# Altium footprint library DiscreteSemiconductors.PcbLib: 21 footprints (part 1 of 2)
Each footprint in its own frame and in the unit in brackets; x right, y up, seen from the top. Pads: shape width x height; smd on the part's side, far side on the other; paste and mask are expansions set on the pad; w line width, h text height; cw(c..) or ccw(c..) is an arc to the next point about the centre after c.
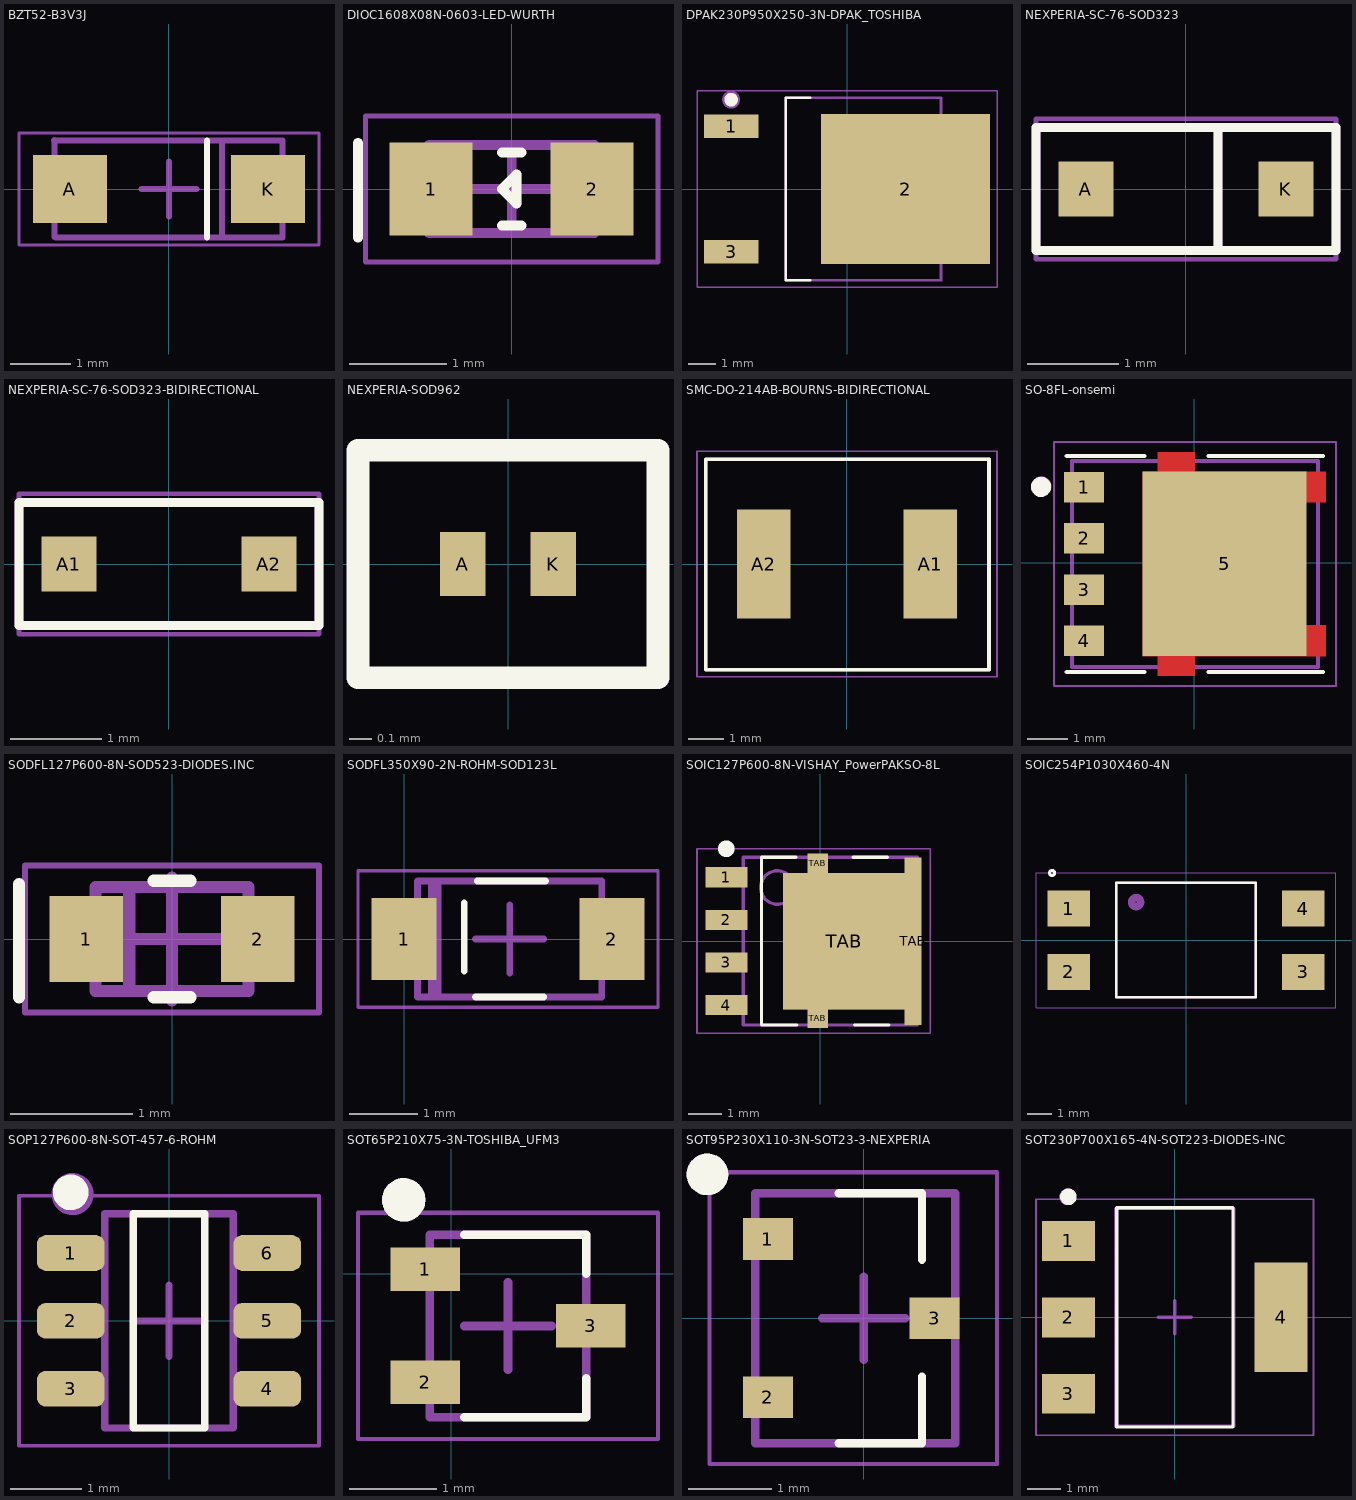
[diagram p0: the footprints below, top view; thin cyan lines are the x and y axes]

## BZT52-B3V3J [mm]
pads (2):
  rect 1.22x1.12 smd: A(-1.635,0) K(1.635,0)
Top Overlay:
  lines w0.1: 0.625,-0.8 0.625,0.8
Top Courtyard:
  lines w0.05: -2.475,-0.925 2.475,-0.925 2.475,0.925 -2.475,0.925 -2.475,-0.925
  lines w0.1: -0.45,0 0.45,0 ; 0,-0.45 0,0.45
Top Assembly (Mech12):
  lines w0.1: -1.9,0.8 1.85,0.8 ; -1.887,-0.795 -1.887,0.805 ; -1.875,-0.8 1.875,-0.8 1.875,0.8 ; 0.875,-0.8 0.875,0.8
3D body "CircuitWorks-SOD123.STEP": height 1.27, standoff 0, extent -1.85,-0.8 1.85,0.8

## DIOC1608X08N-0603-LED-WURTH [mm] "Chip Diode, 2-Leads, Body 1.60x0.80mm, IPC Medium Density. Based in 150060VS75000"
height 0.8
pads (2):
  rect 0.85x0.95 smd: 1(-0.825,0) 2(0.825,0)
Top Overlay:
  lines w0.1: -1.575,-0.5 -1.575,0.475 ; -0.1,-0.375 0.1,-0.375 ; -0.1,0.375 0.1,0.375 ; -0.1,0 0.05,-0.15 0.05,0.15 -0.1,0
Top Courtyard:
  lines w0.05: -1.5,-0.75 1.5,-0.75 1.5,0.75 -1.5,0.75 -1.5,-0.75
  lines w0.1: -0.45,0 0.45,0 ; 0,-0.45 0,0.45
Top Assembly (Mech12):
  lines w0.1: -0.65,-0.425 -0.65,0.45 ; -0.85,-0.45 0.85,-0.45 0.85,0.45 -0.85,0.45 -0.85,-0.45 ; -0.1,0 0.05,0.15 0.05,-0.15 -0.1,0
3D body "DIOC1608X08N-0603-LED-WURTH.step": height 0.8, standoff 0, extent -0.85,-0.45 0.85,0.45

## DPAK230P950X250-3N-DPAK_TOSHIBA [mm] "D-PAK, 3-Pads, Body 5.95x6.71mm (max), IPC Medium Density"
height 2.5
pads (3):
  rect 2x0.85 smd: 1(-4.25,2.3) 3(-4.25,-2.3)
  rect 6.2x5.5 smd: 2(2.15,0)
Top Overlay:
  circle w0.25: c-4.25,3.275 r0.125
  lines w0.1: -1.35,-3.35 -2.25,-3.35 -2.25,3.35 -1.35,3.35
Top Courtyard:
  lines w0.05: -5.5,-3.6 -5.5,3.6 5.5,3.6 5.5,-3.6 -5.5,-3.6
  lines w0.1: -0.5,0 0.5,0 ; 0,-0.5 0,0.5
Top Assembly (Mech12):
  circle w0.254: c-4.25,3.275 r0.202
  lines w0.1: -2.25,-3.35 -2.25,3.35 3.45,3.35 3.45,-3.35 -2.25,-3.35
3D body "DPAK230P950X250-3N-DPAK_TOSHIBA.step": height 2.5, standoff 0, extent -4.55,-3.35 4.95,3.35

## NEXPERIA-SC-76-SOD323 [mm]
pads (2):
  rect 0.6x0.6 smd: A(-1.1,0) K(1.1,0)
Top Overlay:
  lines w0.1: 0.35,-0.65 0.35,0.65 ; -1.65,-0.675 1.65,-0.675 1.65,0.675 -1.65,0.675 -1.65,-0.675
Top Courtyard:
  lines w0.05: -1.65,-0.775 1.65,-0.775 1.65,0.775 -1.65,0.775 -1.65,-0.775
Top Assembly (Mech12):
  lines w0.1: 0.35,-0.65 0.35,0.625 ; -1.65,-0.675 1.65,-0.675 1.65,0.675 -1.65,0.675 -1.65,-0.675
3D body "User Library-SOD323-1.STEP": height 1.1, standoff 0, extent -1.3,-0.675 1.3,0.675

## NEXPERIA-SC-76-SOD323-BIDIRECTIONAL [mm]
pads (2):
  rect 0.6x0.6 smd: A1(-1.1,0) A2(1.1,0)
Top Overlay:
  lines w0.1: -1.65,-0.675 1.65,-0.675 1.65,0.675 -1.65,0.675 -1.65,-0.675
Top Courtyard:
  lines w0.05: -1.65,-0.775 1.65,-0.775 1.65,0.775 -1.65,0.775 -1.65,-0.775
Top Assembly (Mech12):
  lines w0.1: -1.65,-0.675 1.65,-0.675 1.65,0.675 -1.65,0.675 -1.65,-0.675
3D body "User Library-SOD323-1.STEP": height 1.1, standoff 0, extent -1.3,-0.675 1.3,0.675

## NEXPERIA-SOD962 [mm]
pads (2):
  rect 0.2x0.28 smd: A(-0.2,0) K(0.2,0)
Top Overlay:
  lines w0.1: -0.66,-0.5 -0.66,0 -0.66,0.5 0.66,0.5 0.66,-0.5 -0.66,-0.5

## SMC-DO-214AB-BOURNS-BIDIRECTIONAL [mm]
pads (2):
  rect 1.52x3.07 smd: A1(2.345,0) A2(-2.345,0)
Top Overlay:
  lines w0.1: -3.975,-2.975 4,-2.975 4,2.95 -3.975,2.95 -3.975,-2.975
Top Courtyard:
  lines w0.05: -4.225,-3.175 -4.225,3.175 4.225,3.175 4.225,-3.175 -4.225,-3.175
Top Assembly (Mech12):
  lines w0.1: -3.975,-2.975 -3.975,2.95 4,2.95 4,-2.975 -3.975,-2.975
3D body "User Library-DO-214AB SMC.STEP": height 3, standoff 0.7, extent -3.975,-2.95 3.975,2.95

## SO-8FL-onsemi [mm]
pads (5):
  rect 1x0.75 smd paste+0: 1(-2.729,1.88) 2(-2.729,0.61) 3(-2.729,-0.66) 4(-2.729,-1.93)
  rect 4.064x4.572 smd: 5(0.754,-0.025)
Top Layer:
  region: 0.018,2.744 -0.896,2.744 -0.896,2.261 -1.278,2.261 -1.278,-2.311 -0.896,-2.311 -0.896,-2.794 0.018,-2.794 0.018,-2.311 3.261,-2.311 3.261,-1.549 2.271,-1.549 2.271,1.499 3.261,1.499 3.261,2.261 0.018,2.261
Top Overlay:
  circle w0.25: c-3.794,1.886 r0.125
  lines w0.1: -3.157,-2.705 -1.229,-2.705 ; -3.157,2.655 -1.229,2.655 ; 0.351,-2.705 3.193,-2.705 ; 0.351,2.655 3.193,2.655
Top Paste:
  region: 0.018,2.744 -0.896,2.744 -0.896,2.261 -1.278,2.261 -1.278,-2.311 -0.896,-2.311 -0.896,-2.794 0.018,-2.794 0.018,-2.311 3.261,-2.311 3.261,-1.549 2.271,-1.549 2.271,1.499 3.261,1.499 3.261,2.261 0.018,2.261
Top Solder:
  region: 0.018,2.744 -0.896,2.744 -0.896,2.261 -1.278,2.261 -1.278,-2.311 -0.896,-2.311 -0.896,-2.794 0.018,-2.794 0.018,-2.311 3.261,-2.311 3.261,-1.549 2.271,-1.549 2.271,1.499 3.261,1.499 3.261,2.261 0.018,2.261
Top Courtyard:
  lines w0.05: -3.478,-3.048 3.515,-3.048 3.515,2.998 -3.478,2.998 -3.478,-3.048
  lines w0.1: -0.5,0 0.5,0 ; 0,-0.5 0,0.5
Top Assembly (Mech12):
  circle w0.25: c-3.787,1.9 r0.125
  lines w0.1: -3.03,-2.578 -3.03,2.528 3.066,2.528 3.066,-2.578 -3.03,-2.578
3D body "User Library-DFN5x6_SO8FL.STEP": height 1.13, standoff 0, extent -3.062,-2.6 3.088,2.55

## SODFL127P600-8N-SOD523-DIODES.INC [mm] "SBR1A20T5-7"
height 0.65
pads (2):
  rect 0.6x0.7 smd: 1(-0.7,0) 2(0.7,0)
Top Overlay:
  lines w0.1: -1.25,-0.475 -1.25,0.45 ; -0.15,-0.475 0.15,-0.475 ; -0.15,0.475 0.15,0.475
Top Courtyard:
  lines w0.05: -1.2,-0.6 -1.2,0.6 1.2,0.6 1.2,-0.6 -1.2,-0.6
  lines w0.1: -0.5,0 0.5,0 ; 0,-0.5 0,0.5
Top Assembly (Mech12):
  lines w0.1: -0.35,-0.4 -0.35,0.425 ; -0.625,-0.425 -0.625,0.425 0.625,0.425 0.625,-0.425 -0.625,-0.425
3D body "SODFL127P600-8N-SOD523-DIODES.INC.step": height 0.65, standoff 0, extent -0.8,-0.425 0.8,0.425

## SODFL350X90-2N-ROHM-SOD123L [mm] "SODFL, 2-Leads, Body 1.60x3.50mm, IPC Medium Density"
height 0.9
pads (2):
  rect 0.95x1.2 smd: 1(0,0) 2(3.05,0)
Top Overlay:
  lines w0.1: 0.885,-0.469 0.885,0.531 ; 1.05,-0.85 2.05,-0.85 ; 1.075,0.85 2.075,0.85
Top Courtyard:
  lines w0.05: -0.675,-1 3.725,-1 3.725,1 -0.675,1 -0.675,-1
  lines w0.1: 1.05,0 2.05,0 ; 1.55,-0.5 1.55,0.5
Top Assembly (Mech12):
  lines w0.1: 0.2,-0.85 0.2,0.85 2.9,0.85 2.9,-0.85 0.2,-0.85
  lines w0.2: 0.45,-0.775 0.45,0.775
3D body "SODFL350X90-2N-ROHM-SOD123L.step": height 0.9, standoff 0, extent -0.2,-0.85 3.3,0.85

## SOIC127P600-8N-VISHAY_PowerPAKSO-8L [mm] "based off SQJ416EP-T1_GE3"
height 1.14
pads (8):
  rect 1.25x0.6 smd: 1(-2.8,1.905) 2(-2.8,0.635) 3(-2.8,-0.635) 4(-2.8,-1.905)
  rect 0.61x0.59 smd: TAB(-0.07,-2.295) TAB(-0.07,2.32)
  rect 3.63x4.06 smd: TAB(0.71,0)
  rect 0.51x5 smd: TAB(2.77,0)
Top Layer:
  rectangle: -1.1,-2.03 2.53,2.03
Top Overlay:
  circle w0.25: c-2.8,2.755 r0.125
  lines w0.1: -1.75,-2.5 -1.75,2.5 -0.725,2.5 ; -1.728,-2.499 -0.703,-2.499 ; 0.975,2.5 2,2.5 ; 1.022,-2.499 2.047,-2.499
Top Courtyard:
  lines w0.05: -3.675,-2.75 -3.675,2.75 ; -3.675,-2.745 3.275,-2.745 3.275,2.755 -3.675,2.755
  lines w0.1: -0.5,0 0.5,0 ; 0,-0.5 0,0.5
Top Assembly (Mech12):
  circle w0.1: c-1.275,1.6 r0.5
  lines w0.1: -2.3,-2.5 -2.3,2.5 2.9,2.5 2.9,-2.5 -2.3,-2.5
3D body "User Library-PowerPAK SO-8 (S).STEP": height 1.04, standoff 0, extent -3.25,-2.6 2.9,2.55

## SOIC254P1030X460-4N [mm]
pads (4):
  rect 1.7x1.45 smd: 1(-4.7,1.27) 2(-4.7,-1.27) 3(4.7,-1.27) 4(4.7,1.27)
Top Overlay:
  circle w0.127: c-5.375,2.7 r0.1
  lines w0.1: -2.8,2.29 -2.8,-2.29 2.8,-2.29 2.8,2.29 ; -2.8,2.3 2.8,2.3
Top Courtyard:
  lines w0.05: -6.02,-2.7 -6.02,2.7 6.02,2.7 6.02,-2.7 -6.02,-2.7
Top Assembly (Mech12):
  circle w0.3: c-2.003,1.53 r0.18
  lines w0.1: -2.8,2.29 -2.8,-2.29 2.8,-2.29 2.8,2.29 ; -2.8,2.3 2.8,2.3
3D body "VO615A-8X017T.STEP": height 3.7, standoff 0.01, extent -5.08,-2.29 5.08,2.29

## SOP127P600-8N-SOT-457-6-ROHM [mm]
height 1
pads (6):
  rrect50% 0.95x0.5 smd: 1(-1.375,0.95) 2(-1.375,0) 3(-1.375,-0.95) 4(1.375,-0.95) 5(1.375,0) 6(1.375,0.95)
Top Overlay:
  circle w0.25: c-1.375,1.8 r0.125
  lines w0.1: -0.5,-1.5 0.5,-1.5 0.5,1.5 -0.5,1.5 -0.5,-1.5
Top Courtyard:
  lines w0.05: -2.1,-1.75 2.1,-1.75 2.1,1.75 -2.1,1.75 -2.1,-1.75
  lines w0.1: -0.5,0 0.5,0 ; 0,-0.5 0,0.5
Top Assembly (Mech12):
  circle w0.254: c-1.35,1.775 r0.168
  lines w0.1: -0.9,-1.5 0.9,-1.5 0.9,1.5 -0.9,1.5 -0.9,-1.5
3D body "SOP127P600-8N-SOT-457-6-ROHM.step": height 1, standoff 0, extent -1.393,-1.5 1.393,1.5

## SOT65P210X75-3N-TOSHIBA_UFM3 [mm] "SOT23, 3-Leads, Body 2,00x2,10mm, Pitch 0,65mm, IPC Medium Density"
height 0.75
pads (3):
  rect 0.8x0.5 smd: 1(-0.3,0.05) 2(-0.3,-1.25) 3(1.6,-0.6)
Top Overlay:
  circle w0.25: c-0.55,0.85 r0.125
  lines w0.1: 0.15,-1.65 1.55,-1.65 1.55,-1.2 ; 0.15,0.45 1.55,0.45 1.55,0
Top Courtyard:
  lines w0.05: -1.075,-1.9 2.375,-1.9 2.375,0.7 -1.075,0.7 -1.075,-1.9
  lines w0.1: 0.15,-0.6 1.15,-0.6 ; 0.65,-1.1 0.65,-0.1
Top Assembly (Mech12):
  circle w0.25: c-0.55,0.85 r0.125
  lines w0.1: -0.25,-1.65 1.55,-1.65 1.55,0.45 -0.25,0.45 -0.25,-1.65
3D body "SOT65P210X75-3N-TOSHIBA_UFM3.step": height 0.75, standoff 0, extent -0.35,-1.65 1.65,0.45

## SOT95P230X110-3N-SOT23-3-NEXPERIA [mm] "SOT23, 3-Leads, Body 2.90x2.30mm, Pitch 0.95mm, IPC Medium Density"
height 1.1
pads (3):
  rect 0.6x0.5 smd: 1(-1.15,0.95) 2(-1.15,-0.95) 3(0.85,0)
Top Overlay:
  circle w0.25: c-1.875,1.725 r0.125
  lines w0.1: -0.3,-1.5 0.7,-1.5 0.7,-0.7 ; -0.3,1.5 0.7,1.5 0.7,0.7
Top Courtyard:
  lines w0.05: -1.85,-1.75 1.6,-1.75 1.6,1.75 -1.85,1.75 -1.85,-1.75
  lines w0.1: -0.5,0 0.5,0 ; 0,-0.5 0,0.5
Top Assembly (Mech12):
  circle w0.25: c-1.875,1.725 r0.125
  lines w0.1: -1.3,-1.5 -1.3,1.5 1.1,1.5 1.1,-1.5 -1.3,-1.5
3D body "SOT95P230X110-3N-SOT23-3-NEXPERIA.step": height 1.1, standoff 0, extent -1.45,-1.5 1.15,1.5

## SOT230P700X165-4N-SOT223-DIODES-INC [mm] "SOT223, 4-Leads, Body 6.50x7.00mm (avg), Pitch 2.30mm, IPC Medium Density"
height 1.65
pads (4):
  rect 1.6x1.2 smd: 1(-3.2,2.3) 2(-3.2,0) 3(-3.2,-2.3)
  rect 1.6x3.3 smd: 4(3.2,0)
Top Overlay:
  circle w0.25: c-3.2,3.625 r0.125
  lines w0.1: -1.75,-3.3 -1.75,3.3 1.75,3.3 1.75,-3.3 -1.75,-3.3
Top Courtyard:
  lines w0.05: -4.175,-3.55 -4.175,3.55 4.175,3.55 4.175,-3.55 -4.175,-3.55
  lines w0.1: -0.5,0 0.5,0 ; 0,-0.5 0,0.5
Top Assembly (Mech12):
  circle w0.254: c-3.225,3.625 r0.125
  lines w0.1: -1.775,-3.275 -1.775,3.275 1.775,3.275 1.775,-3.275 -1.775,-3.275
3D body "SOT230P700X165-4N-SOT223-DIODES-INC.step": height 1.65, standoff 0, extent -3.5,-3.275 3.5,3.275